# Altium footprint library SON80P244X244X95-7N.PcbLib: 1 footprints
Each footprint in its own frame and in the unit in brackets; x right, y up, seen from the top. Pads: shape width x height; smd on the part's side, far side on the other; paste and mask are expansions set on the pad; w line width, h text height; cw(c..) or ccw(c..) is an arc to the next point about the centre after c.
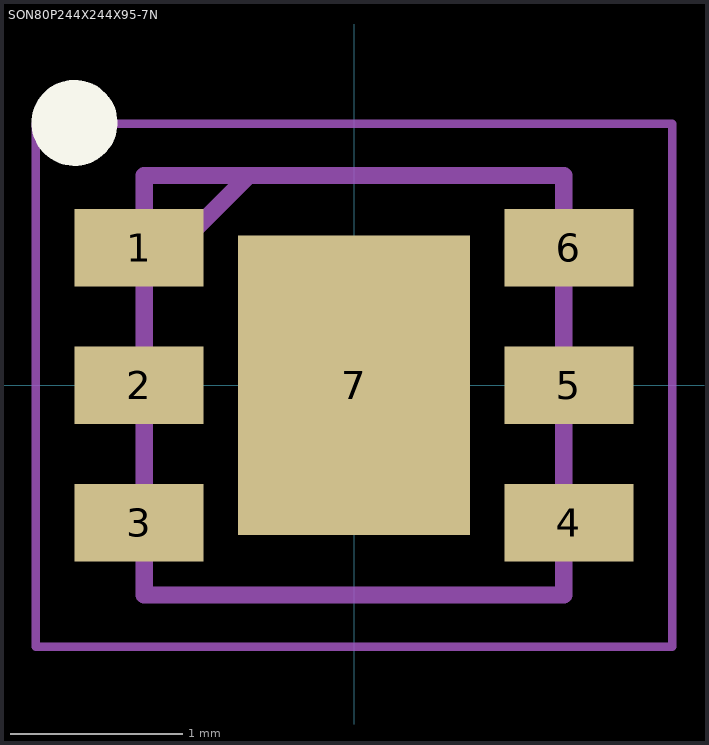
[diagram p0: the footprint, top view; thin cyan lines are the x and y axes]

## SON80P244X244X95-7N [mm]
pads (7):
  rect 0.75x0.45 smd: 1(-1.25,0.8) 2(-1.25,0) 3(-1.25,-0.8) 4(1.25,-0.8) 5(1.25,0) 6(1.25,0.8)
  rect 1.35x1.74 smd: 7(0,0)
Top Overlay:
  circle w0.25: c-1.625,1.525 r0.125
Mechanical 15:
  lines w0.1: -1.22,0.61 -0.61,1.22 ; -1.22,-1.22 1.22,-1.22 1.22,1.22 -1.22,1.22 -1.22,-1.22
Mechanical 20:
  lines w0.05: -1.85,-1.52 1.85,-1.52 1.85,1.52 -1.85,1.52 -1.85,-1.52